# Altium schematic symbol library DUTBoard.SchLib: 7 symbols
Pins are listed as number, name and electrical type; pins without a type are passive.

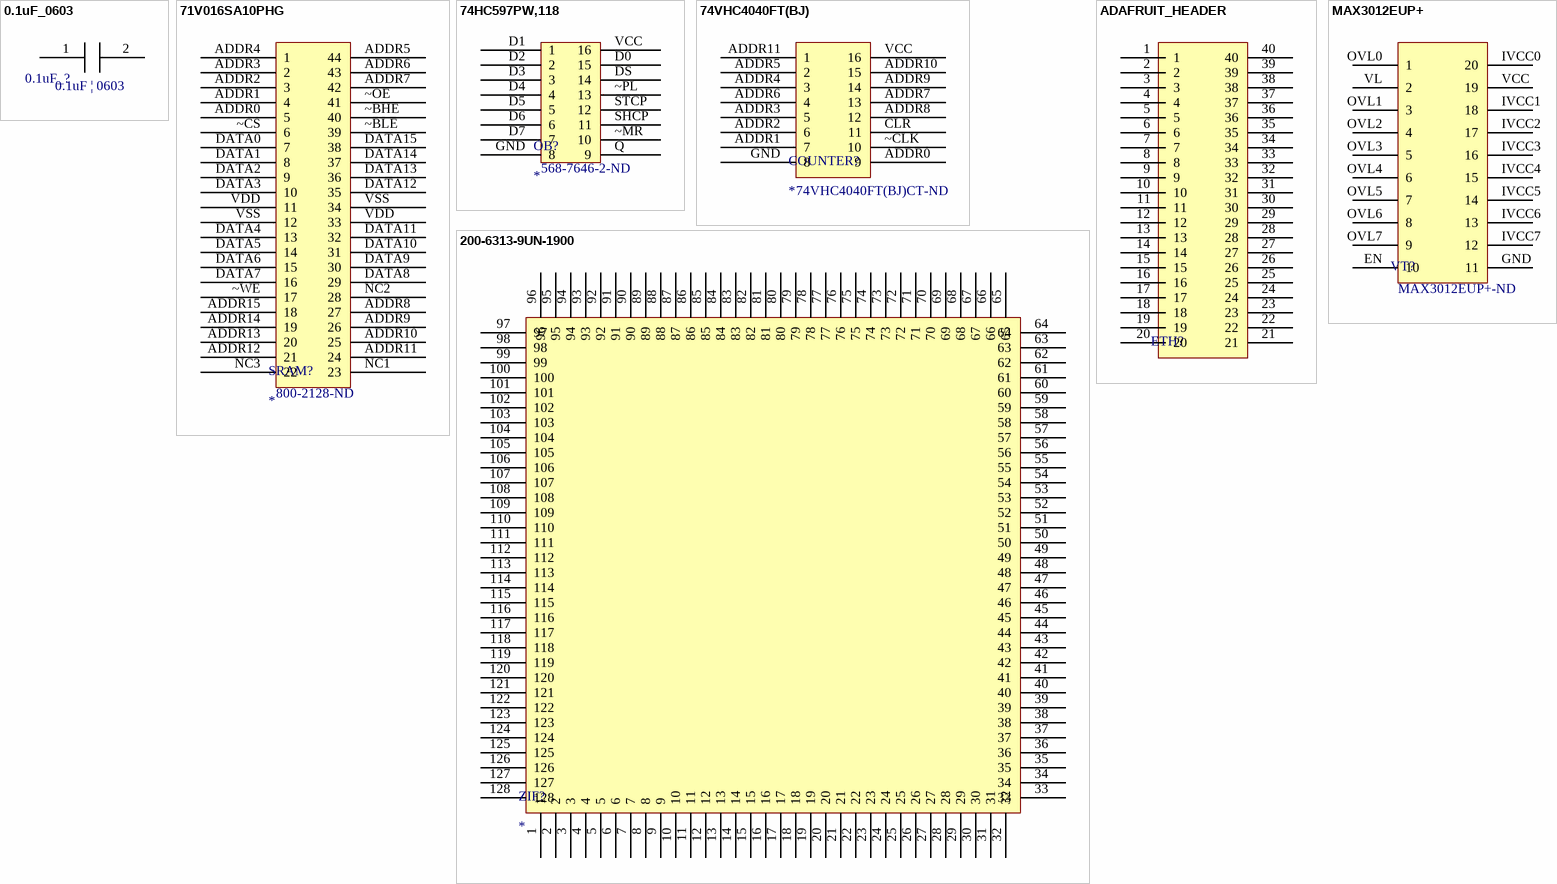
[diagram p0: symbols 0.1uF_0603 to MAX3012EUP+]

## 0.1uF_0603
designator 0.1uF_?
footprint 0.1uF_0603
pins: 1, 2
text: 0.1uF | 0603

## 71V016SA10PHG
designator SRAM?  Supplier Part Number 1: 800-2128-ND
IC SRAM 1MBIT 10NS 44TSOP; Manufacturer: IDT, Integrated Device Technology Inc; Manufacturer Part Number: 71V016SA10PHG; Format - Memory: RAM; Memory Type: SRAM - Asynchronous; Memory Size: 1M (64K x 16); Interface: Parallel; Voltage - Supply: 3.15 V ~ 3.6 V; Supplier 1: Digi-Key; RoHS: RoHS Compliant; Category: Integrated Circuits (ICs); Stock 1: 114; Pricing 1: 1=2.64, 25=2.1252, 100=1.9125, 250=1.7, 500=1.4875, 1000=1.2325, 2500=1.1475, 5000=1.105, 10000=1.0625 (USD); Packaging: Tube; Speed: 10ns; Operating Temperature: 0°C ~ 70°C (TA); Package / Case: 44-TSOP (0.400", 10.16mm Width); Supplier Device Package: 44-TSOP II; ComponentLink1URL: http://www.idt.com/document/71v016sa-datasheet; ComponentLink1Description: http://www.idt.com/document/71v016sa-datasheet
footprint SRAM_TSSOP44-II (TSOP, 44-Leads, Body 18.41x10.16mm, Pitch 0.80mm, IPC Medium Density)
pins: ADDR0 5, ADDR1 4, ADDR2 3, ADDR3 2, ADDR4 1, ADDR5 44, ADDR6 43, ADDR7 42, ADDR8 27, ADDR9 26, ADDR10 25, ADDR11 24, ADDR12 21, ADDR13 20, ADDR14 19, ADDR15 18, DATA0 7, DATA1 8, DATA2 9, DATA3 10, DATA4 13, DATA5 14, DATA6 15, DATA7 16, DATA8 29, DATA9 30, DATA10 31, DATA11 32, DATA12 35, DATA13 36, DATA14 37, DATA15 38, NC1 23, NC2 28, NC3 22, VDD 11, VDD 33, VSS 12, VSS 34, ~BHE 40, ~BLE 39, ~CS 6, ~OE 41, ~WE 17

## 74HC597PW,118
designator OB?  Supplier Part Number 1: 568-7646-2-ND
IC 8BIT SHIFT REGISTER 16TSSOP; Manufacturer: NXP Semiconductors; Manufacturer Part Number: 74HC597PW,118; Output Type: Push-Pull; Number of Elements: 1; Number of Bits per Element: 8; Function: Parallel to Serial; Voltage - Supply: 2 V ~ 6 V; Supplier 1: Digi-Key; RoHS: RoHS Compliant; Category: Integrated Circuits (ICs); Stock 1: 7500; Pricing 1: 2500=0.20506, 5000=0.19184, 12500=0.1786, 25000=0.16934, 62500=0.16538, 125000=0.15876 (USD); Packaging: Tape & Reel (TR); Logic Type: Shift Register; Operating Temperature: -40°C ~ 125°C; Mounting Type: Surface Mount; Package / Case: 16-TSSOP (0.173", 4.40mm Width); Supplier Device Package: 16-TSSOP; ComponentLink1URL: http://www.nxp.com/documents/data_sheet/74HC_HCT597.pdf; ComponentLink1Description: http://www.nxp.com/documents/data_sheet/74HC_HCT597.pdf
footprint OB_TSSOP16 (TSOP, 16-Leads, Body 5.00x4.40mm, Pitch 0.65mm, IPC Medium Density)
pins: D0 15, D1 1, D2 2, D3 3, D4 4, D5 5, D6 6, D7 7, DS 14, GND 8, Q 9, SHCP 11, STCP 12, VCC 16, ~MR 10, ~PL 13

## 74VHC4040FT(BJ)
designator COUNTER?  Supplier Part Number 1: 74VHC4040FT(BJ)CT-ND
IC COUNTER BIN 12STAGE 16-TSSOP; Manufacturer: Toshiba Semiconductor and Storage; Manufacturer Part Number: 74VHC4040FT(BJ); Logic Type: Binary Counter; Direction: Up; Number of Elements: 1; Number of Bits per Element: 12; Reset: Asynchronous; Count Rate: 210MHz; Trigger Type: Negative Edge; Voltage - Supply: 2 V ~ 5.5 V; Supplier 1: Digi-Key; RoHS: RoHS Compliant; Category: Integrated Circuits (ICs); Stock 1: 4371; Pricing 1: 1=0.54, 10=0.42, 25=0.3544, 100=0.2888, 250=0.2392, 500=0.1976, 1000=0.148 (USD); Packaging: Cut Tape (CT); Timing: -; Operating Temperature: -40°C ~ 85°C; Mounting Type: Surface Mount; Package / Case: 16-TSSOP (0.173", 4.40mm Width); Supplier Device Package: 16-TSSOPB; ComponentLink1URL: http://www.semicon.toshiba.co.jp/info/docget.jsp?type=datasheet&lang=en&pid=74VHC4040FT; ComponentLink1Description: http://www.semicon.toshiba.co.jp/info/docget.jsp?type=datasheet&lang=en&pid=74VHC4040FT
footprint COUNTER_TSSOP16 (TSOP, 16-Leads, Body 5.00x4.40mm, Pitch 0.65mm, IPC Medium Density)
pins: ADDR0 9, ADDR1 7, ADDR2 6, ADDR3 5, ADDR4 3, ADDR5 2, ADDR6 4, ADDR7 13, ADDR8 12, ADDR9 14, ADDR10 15, ADDR11 1, CLR 11, GND 8, VCC 16, ~CLK 10

## 200-6313-9UN-1900
designator ZIF?
CONN SOCKET PGA ZIF 169POS GOLD; Manufacturer: 3M; Manufacturer Part Number: 200-6313-9UN-1900; Number of Positions or Pins (Grid): 169 (13 x 13); Pitch - Mating: 0.100" (2.54mm); Material Flammability Rating: UL94 V-0; Current Rating: 1A; Supplier 1: Digi-Key; RoHS: RoHS Compliant; Category: Connectors, Interconnects; Stock 1: 80; Pricing 1: 1=44.25, 10=41.648, 25=40.3464, 50=37.7436, 100=35.6611, 250=34.61992, 500=33.839 (USD); Packaging: Bulk; Type: PGA, ZIF (ZIP); Contact Finish - Mating: Gold; Contact Finish Thickness - Mating: 30µin (0.76µm); Contact Material - Mating: Beryllium Copper; Mounting Type: Through Hole; Features: -; Termination: Solder; Pitch - Post: 0.100" (2.54mm); Contact Finish - Post: Gold; Contact Finish Thickness - Post: 30µin (0.76µm); Contact Material - Post: Beryllium Copper; Housing Material: Polyethersulfone (PES); Operating Temperature: -55°C ~ 150°C; Termination Post Length: 0.130" (3.30mm); Contact Resistance: -; ComponentLink1URL: http://multimedia.3m.com/mws/mediawebserver?66666UuZjcFSLXTtlX&cMXMXEVuQEcuZgVs6EVs6E666666--; ComponentLink1Description: http://multimedia.3m.com/mws/mediawebserver?66666UuZjcFSLXTtlX&cMXMXEVuQEcuZgVs6EVs6E666666--
footprint ZIF_13x13
pins: 1, 2, 3, 4, 5, 6, 7, 8, 9, 10, 11, 12, 13, 14, 15, 16, 17, 18, 19, 20, 21, 22, 23, 24, 25, 26, 27, 28, 29, 30, 31, 32, 33, 34, 35, 36, 37, 38, 39, 40, 41, 42, 43, 44, 45, 46, 47, 48, 49, 50, 51, 52, 53, 54, 55, 56, 57, 58, 59, 60, 61, 62, 63, 64, 65, 66, 67, 68, 69, 70, 71, 72, 73, 74, 75, 76, 77, 78, 79, 80, 81, 82, 83, 84, 85, 86, 87, 88, 89, 90, 91, 92, 93, 94, 95, 96, 97, 98, 99, 100, 101, 102, 103, 104, 105, 106, 107, 108, 109, 110, 111, 112, 113, 114, 115, 116, 117, 118, 119, 120, 121, 122, 123, 124, 125, 126, 127, 128

## ADAFRUIT_HEADER
designator ETH?  (value not drawn)
Extra tall female header (SMD)
footprint FEMALE_HEADER_SMD
pins: 1, 2, 3, 4, 5, 6, 7, 8, 9, 10, 11, 12, 13, 14, 15, 16, 17, 18, 19, 20, 21, 22, 23, 24, 25, 26, 27, 28, 29, 30, 31, 32, 33, 34, 35, 36, 37, 38, 39, 40

## MAX3012EUP+
designator VT?  Supplier Part Number 1: MAX3012EUP+-ND  (hidden comment: *)
IC TRANSLATOR LEVEL 8CH 20-TSSOP; Manufacturer: Maxim Integrated; Manufacturer Part Number: MAX3012EUP+; Translator Type: Voltage Level; Channel Type: Unidirectional; Number of Circuits: 1; Channels per Circuit: 8; Voltage - VCCA: 1.2 V ~ 5.5 V; Voltage - VCCB: 1.65 V ~ 5.5 V; Output Type: Tri-State, Non-Inverted; Data Rate: 35Mbps; Supplier 1: Digi-Key; RoHS: RoHS Compliant; Category: Integrated Circuits (ICs); Stock 1: 297; Pricing 1: 1=3.17, 10=3.012, 25=2.81, 50=2.7668 (USD); Packaging: Tube; Input Signal: -; Output Signal: -; Operating Temperature: -40°C ~ 85°C (TA); Features: Power Supply Decoupling; Mounting Type: Surface Mount; Package / Case: 20-TSSOP (0.173", 4.40mm Width); Supplier Device Package: 20-TSSOP; ComponentLink1URL: http://datasheets.maximintegrated.com/en/ds/MAX3000E-MAX3012.pdf; ComponentLink1Description: http://datasheets.maximintegrated.com/en/ds/MAX3000E-MAX3012.pdf
footprint VT_TSSOP20 (TSOP, 20-Leads, Body 6.50x4.40mm, Pitch 0.65mm, IPC Medium Density)
pins: EN 10, GND 11, IVCC0 20, IVCC1 18, IVCC2 17, IVCC3 16, IVCC4 15, IVCC5 14, IVCC6 13, IVCC7 12, OVL0 1, OVL1 3, OVL2 4, OVL3 5, OVL4 6, OVL5 7, OVL6 8, OVL7 9, VCC 19, VL 2